# Altium footprint library pad_rect_4x1_1mm.PcbLib: 1 footprints
Each footprint in its own frame and in the unit in brackets; x right, y up, seen from the top. Pads: shape width x height; smd on the part's side, far side on the other; paste and mask are expansions set on the pad; w line width, h text height; cw(c..) or ccw(c..) is an arc to the next point about the centre after c.
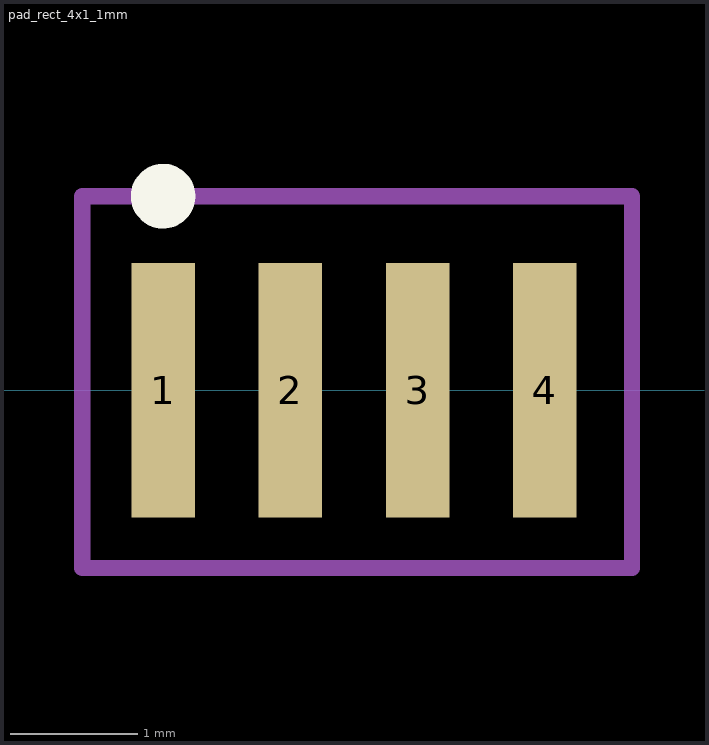
[diagram p0: the footprint, top view; thin cyan lines are the x and y axes]

## pad_rect_4x1_1mm [mm] "1mm pitch Rect Pads"
pads (4):
  rect 0.5x2 smd: 1(-7.62,0) 2(-6.62,0) 3(-5.62,0) 4(-4.62,0)
Top Overlay:
  circle w0.254: c-7.62,1.524 r0.127
Mechanical 15:
  lines w0.127: -8.255,-1.397 -8.255,1.524 -3.937,1.524 -3.937,-1.397 -8.255,-1.397